# EAGLE library part SCWTRMX10 (library omcConnector)
Screw solder terminal - X10 pole: 2 srew terminal, plugable rectangular cable connection, 90° stackable without lost of contact RT034 - Typ 086 - 3.81mm grid: Metz Connect Productside <http://www.metz-connect.com/de/products/310861> Metz Connect Datasheet <http://www.metz-connect.com/de/system/files/productfiles/Datenblatt_310861_RT034xxHBLC_OFF-026114I.pdf> Reichelt Datasheet <http://cdn-reichelt.de/documents/datenblatt/C151/AKL086.pdf> RT035 - Typ 094 - 5mm grid: Metz Connect Productside <http://www.metz-connect.com/de/products/310941> Metz Connect Datasheet <http://www.metz-connect.com/de/system/files/productfiles/Datenblatt_310941_RT035xxHBLU_OFF-022741Q.pdf> Metz connect terminal - electrical and mechanical parameter Parameter RT034 - Typ 086 (3.81mm grid) RT035 - Typ 094 (5mm grid) conductor diameter (single wire) 0,2 - 1,5 mm² (AWG 28 - 16) 0,2 - 1,5 mm² (AWG 26 - 16) conductor diameter (multi wire) 0,2 - 1,5 mm² (AWG 28 - 16) 0,2 - 1,5 mm² (AWG 26 - 16) smallest leackage path 2 mm 3,2 mm IEC 60529 IP 00 IP 20 strip length (min) 5mm 6 mm Distributor Reichelt: avialable Conrad: avialable Digi-Key: -
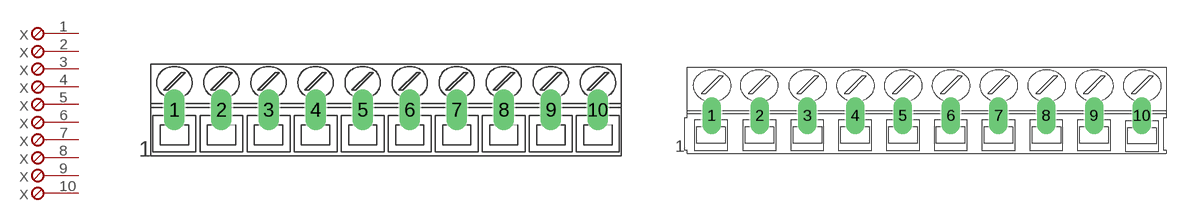
[diagram p3: symbol with the pads of RT03410T086; footprints RT03410T086, RT03510T094]

Designator prefix X; gates G$1=PSCWR G$2=PSCWR G$3=PSCWR G$4=PSCWR G$5=PSCWR G$6=PSCWR G$7=PSCWR G$8=PSCWR G$9=PSCWR G$10=PSCWR

## SCWTRMX10-3M81 (DIST#REICHELT#: AKL 086-10; VALUE: RT034 Typ 086; VENDOR#: Metz Connect#31086110)  [RT03410T086]
1  G$1:P$1
2  G$2:P$1
3  G$3:P$1
4  G$4:P$1
5  G$5:P$1
6  G$6:P$1
7  G$7:P$1
8  G$8:P$1
9  G$9:P$1
10  G$10:P$1

## SCWTRMX10-5M00 (DIST#REICHELT#: AKL 094-10; VALUE: RT035 Typ 094; VENDOR#: Metz Connect#31094110)  [RT03510T094]
Pads as for RT03410T086

## Footprint RT03410T086 (pad centres in mm)
RT03502HBLU (Typ 086) - Screw Terminal X10 spacing 3.81mm Metz Connect Productside <http://www.metz-connect.com/de/products/310861>
drill 1.1 long: 1 0,0; 2 3.81,0; 3 7.62,0; 4 11.43,0; 5 15.24,0; 6 19.05,0; 7 22.86,0; 8 26.67,0; 9 30.48,0; 10 34.29,0

## Footprint RT03510T094 (pad centres in mm)
RT03505HBLU (Typ 094) - Screw Terminal X10 spacing 5mm Metz Connect Productside <http://www.metz-connect.com/de/products/310941>
drill 1.3 long: 1 0,0; 2 5.001,0; 3 10.001,0; 4 15.002,0; 5 20.003,0; 6 25.003,0; 7 30.004,0; 8 35.004,0; 9 40.005,0; 10 45.006,0